# EAGLE library part TPS79533DCQR (library TPS79533DCQR)
Ultralow-Noise, High-PSRR, Fast, RF, 500-mA Low-Dropout Linear Regulators Source: Datasheet <http://www.ti.com/lit/gpn/tps795>
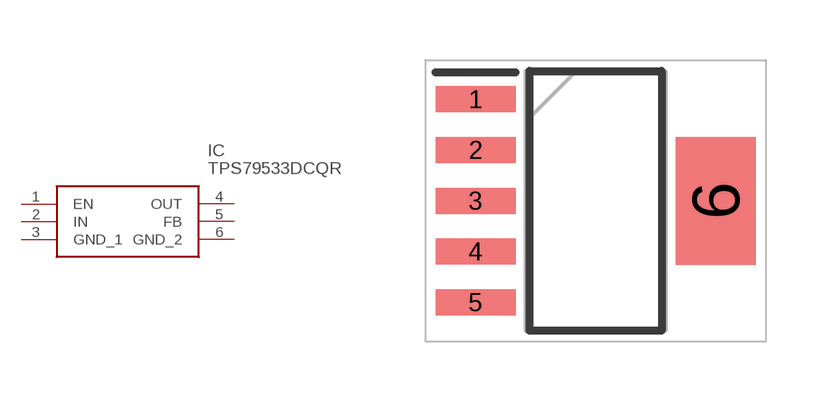
[diagram p0: symbol with the pads of SOT127P706X180-6N; footprint SOT127P706X180-6N]

Designator prefix IC

## TPS79533DCQR (DESCRIPTION: Ultralow-Noise, High-PSRR, Fast, RF, 500-mA Low-Dropout Linear Regulators; HEIGHT: 1.8mm; MANUFACTURER_NAME: Texas Instruments; MANUFACTURER_PART_NUMBER: TPS79533DCQR; MOUSER_PART_NUMBER: 595-TPS79533DCQR; MOUSER_PRICE-STOCK: https://www.mouser.com/Search/Refine.aspx?Keyword=595-TPS79533DCQR)  [SOT127P706X180-6N]
1  EN
2  IN
3  GND_1
4  OUT
5  FB
6  GND_2

## Footprint SOT127P706X180-6N (pad centres in mm)
TPS79533DCQR
smd 2 x 0.65: 1 -3,2.54; 2 -3,1.27; 3 -3,0; 4 -3,-1.27; 5 -3,-2.54
smd 2 x 3.2: 6 3,0